# EAGLE library part PQ1R* (library kamiki-sot23)
SHARP PQ1R30 Series Low Output Current, Compact Surface Mount Type Low Power-Loss Voltage Regulators.
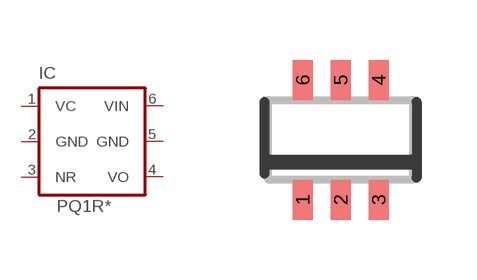
[diagram p1: symbol with the pads of SOT23L; footprint SOT23L]

Designator prefix IC

## PQ1R22, PQ1R23, PQ1R25, PQ1R27, PQ1R28, PQ1R29, PQ1R30, PQ1R31, PQ1R33, PQ1R34, PQ1R36, PQ1R38, PQ1R40, PQ1R47, PQ1R49, PQ1R50, PQ1R52  [SOT23L]
1  VC  in
2  GND  pwr
3  NR  pas
4  VO  pwr
5  GND  pwr
6  VIN  in

## Footprint SOT23L (pad centres in mm)
SOT-23L based on Sharp PQ1R30, Package length 3.8mm, Package width 3.3mm, Body width 2.2mm, Lead width 0.31-0.33mm.
smd 0.5 x 1: 1 -0.95,-1.5; 2 0,-1.5; 3 0.95,-1.5; 4 0.95,1.5; 5 0,1.5; 6 -0.95,1.5